# Altium footprint library base.PcbLib: 15 footprints
Each footprint in its own frame and in the unit in brackets; x right, y up, seen from the top. Pads: shape width x height; smd on the part's side, far side on the other; paste and mask are expansions set on the pad; w line width, h text height; cw(c..) or ccw(c..) is an arc to the next point about the centre after c.
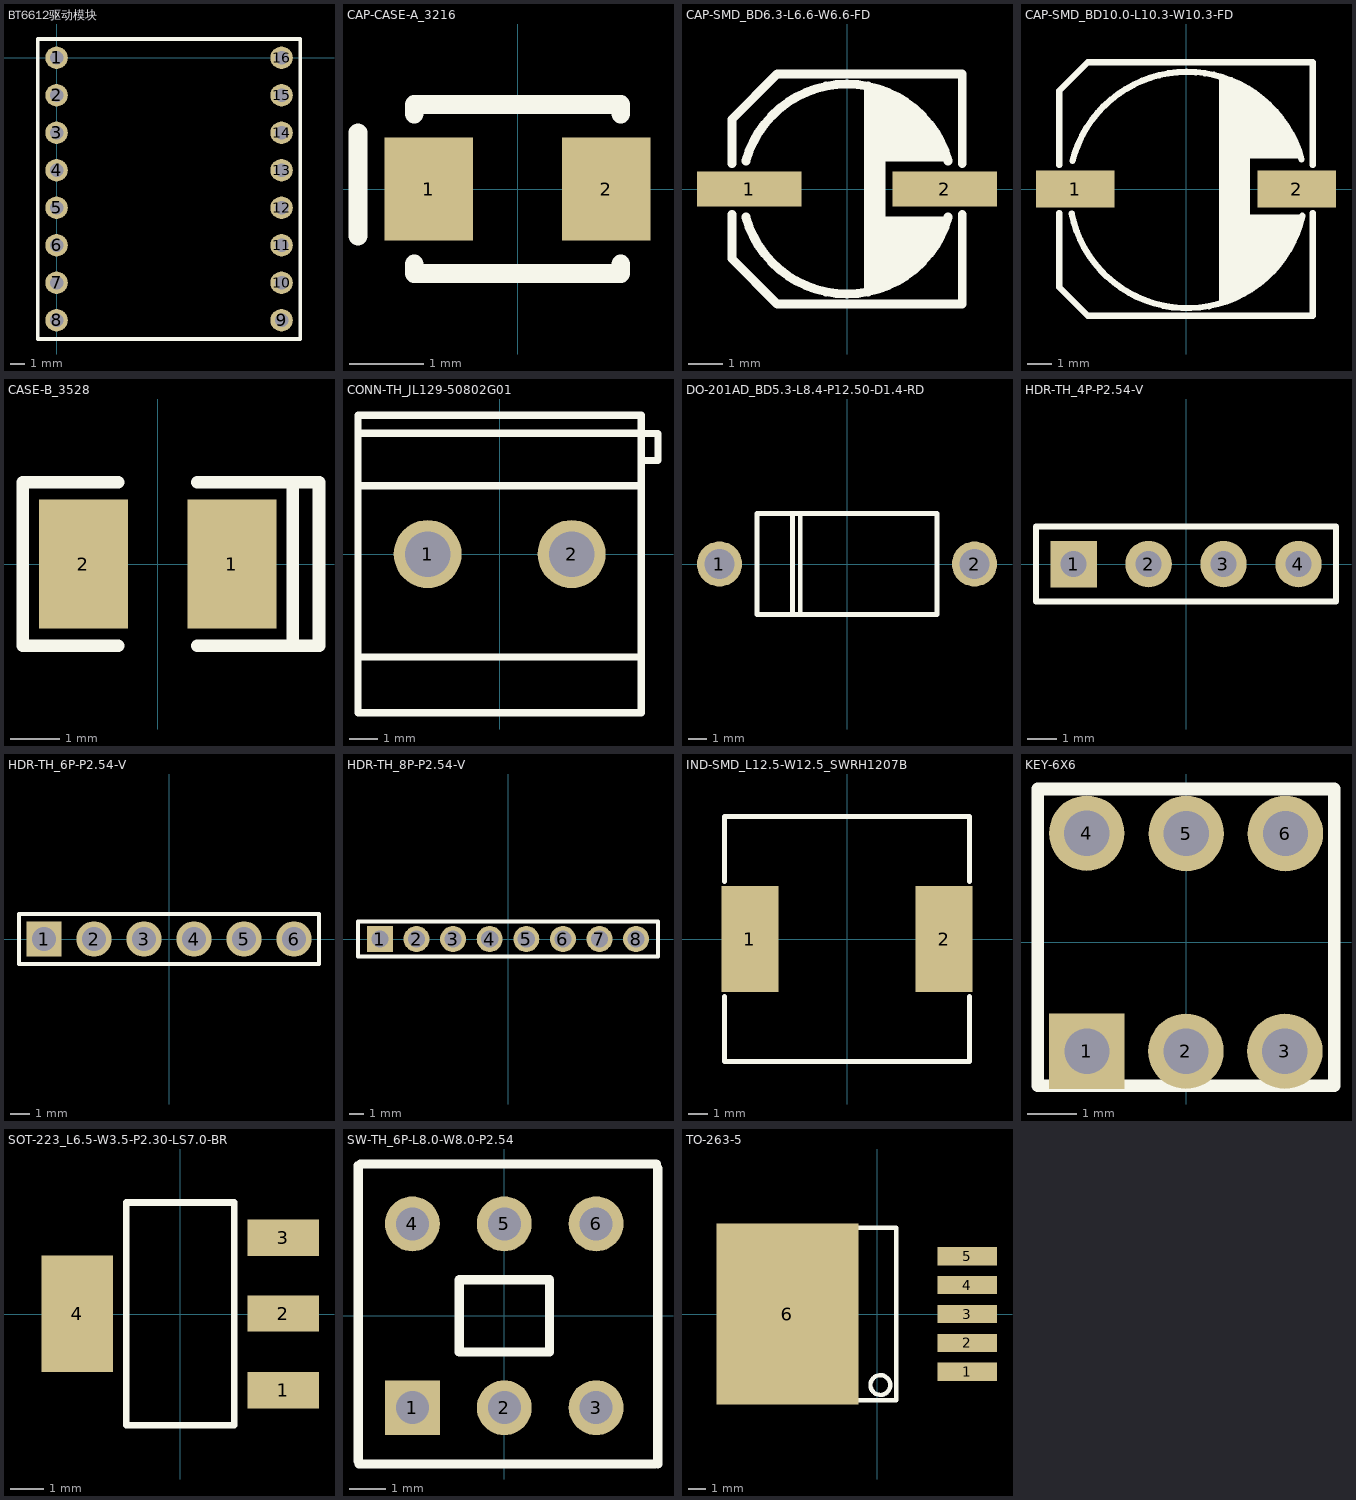
[diagram p0: the footprints below, top view; thin cyan lines are the x and y axes]

## BT6612驱动模块 [mil]
pads (16):
  round 60 hole 36: 1(0.08,-0.06) 2(0.08,-100.06) 3(0,-200) 4(0,-300) 5(0,-400) 6(0,-500) 7(0,-600) 8(0,-700) 9(600,-700) 10(600,-600) 11(600,-500) 12(600,-400) 13(600,-300) 14(600,-200) 15(600,-100) 16(600,0)
Top Overlay:
  lines w10: -50,-750 -50,50 650,50 650,-750 -50,-750

## CAP-CASE-A_3216 [mm]
pads (2):
  rect 1.2x1.4 smd: 1(-1.2,0) 2(1.2,0)
Top Overlay:
  lines w0.254: -2.159,-0.635 -2.159,0.762 ; -1.397,-1.016 -1.397,-1.143 1.397,-1.143 1.397,-1.016 ; -1.397,1.016 -1.397,1.143 1.397,1.143 1.397,1.016

## CAP-SMD_BD6.3-L6.6-W6.6-FD [mm]
pads (2):
  rect 3x1 smd: 1(-2.8,0) 2(2.8,0)
Top Overlay:
  region: 0.5,-3 0.5,2.9 0.5,3 0.5,2.9 1.1,2.8 1.6,2.6 1.9,2.3 2.2,2.1 2.5,1.8 2.7,1.4 2.9,0.8 1.1,0.8 1.1,-0.8 2.9,-0.8 2.8,-1 2.7,-1.4 2.4,-1.7 2.2,-2.1 1.8,-2.4 1.4,-2.6 1,-2.8 0.5,-3
  lines w0.254: -3.297,-0.732 -3.297,-1.999 -1.996,-3.299 3.302,-3.299 3.302,-0.732 ; -3.297,0.732 -3.297,1.999 -1.996,3.299 3.302,3.299 3.302,0.732 ; -2.9,-0.8 ccw(c0,0) 2.9,-0.8 ; -2.9,0.8 cw(c0,0) 2.9,0.8

## CAP-SMD_BD10.0-L10.3-W10.3-FD [mm]
pads (2):
  rect 3.2x1.5 smd: 1(-4.5,0) 2(4.5,0)
Top Overlay:
  region: 1.35,4.6 1.35,-4.65 1.8,-4.45 2.4,-4.2 2.9,-3.9 3.25,-3.55 3.55,-3.35 3.85,-2.95 4.2,-2.35 4.45,-1.95 4.6,-1.6 4.75,-1.05 2.6,-1.05 2.6,1.1 2.6,1.25 4.65,1.25 4.5,1.8 4.2,2.45 3.95,2.9 3.4,3.45 2.8,3.85 2.2,4.2 1.8,4.5 1.35,4.65
  lines w0.254: -5.15,-0.981 -5.15,-4 -4,-5.15 5.15,-5.15 5.15,-0.981 ; -5.15,0.981 -5.15,4 -4,5.15 5.15,5.15 5.15,0.981 ; -4.65,-1 ccw(c0.05,-0.05) 4.731,-1.09 ; -4.614,1.146 cw(c0.05,-0.05) 4.7,1.2

## CASE-B_3528 [mm]
pads (2):
  rect 1.8x2.6 smd: 1(1.501,0) 2(-1.501,0)
Top Overlay:
  lines w0.254: -0.8,-1.65 -2.727,-1.65 -2.727,1.65 -0.8,1.65 ; 0.8,-1.65 2.727,-1.65 ; 0.8,1.65 2.727,1.65 ; 2.727,-1.65 2.727,1.65 ; 2.727,-1.65 3.26,-1.65 3.26,1.65 2.727,1.65

## CONN-TH_JL129-50802G01 [mm]
pads (2):
  round 2.4 hole 1.6: 1(-2.54,0) 2(2.54,0)
Top Overlay:
  lines w0.254: -5,-3.638 5,-3.638 ; -5,2.409 5,2.409 ; -5,4.263 5,4.263 ; 5,3.302 5.588,3.302 5.588,4.261 5,4.261 ; -5,-5.6 -5,4.9 5,4.9 5,-5.6 -5,-5.6

## DO-201AD_BD5.3-L8.4-P12.50-D1.4-RD [mm]
pads (2):
  round 2.4 hole 1.6: 1(-6.8,0) 2(6.8,0)
Top Overlay:
  lines w0.254: -2.902,-2.7 -2.902,2.7 ; -2.496,-2.54 -2.496,2.7 ; -4.8,-2.7 -4.8,2.7 4.8,2.7 4.8,-2.7 -4.8,-2.7

## HDR-TH_4P-P2.54-V [mil]
pads (4):
  rect 62x62 hole 35: 1(-150,0)
  round 62 hole 35: 2(-50,0) 3(50,0) 4(150,0)
Top Overlay:
  lines w7.99: -125,50 200,50
  lines w8: -125,50 -200,50 -200,-50 200,-50 200,50

## HDR-TH_6P-P2.54-V [mm]
pads (6):
  rect 1.8x1.8 hole 1.2: 1(-6.35,0)
  round 1.8 hole 1.2: 2(-3.81,0) 3(-1.27,0) 4(1.27,0) 5(3.81,0) 6(6.35,0)
Top Overlay:
  lines w0.203: -7.62,-1.27 7.62,-1.27 7.62,1.27 -5.715,1.27 -7.62,1.27 -7.62,-1.27

## HDR-TH_8P-P2.54-V [mm]
pads (8):
  rect 1.8x1.8 hole 1.2: 1(-8.89,0)
  round 1.8 hole 1.2: 2(-6.35,0) 3(-3.81,0) 4(-1.27,0) 5(1.27,0) 6(3.81,0) 7(6.35,0) 8(8.89,0)
Top Overlay:
  lines w0.254: -10.41,-1.22 -10.41,1.22 10.41,1.22 10.41,-1.22 -10.41,-1.22

## IND-SMD_L12.5-W12.5_SWRH1207B [mm]
pads (2):
  rect 2.9x5.4 smd: 1(-4.95,0) 2(4.95,0)
Top Overlay:
  lines w0.254: -6.25,-2.931 -6.25,-6.25 6.25,-6.25 6.25,-2.931 ; -6.25,2.931 -6.25,6.25 6.25,6.25 6.25,2.931

## KEY-6X6 [mil]
pads (6):
  rect 60x60 hole 36: 1(-78.9,-86.75)
  round 60 hole 36: 2(-0.1,-86.75) 3(78.6,-86.75) 4(-79,86.75) 5(0.1,86.45) 6(79,86.45)
Top Overlay:
  lines w10: -118.17,-114.3 118.05,-114.3 118.05,121.92 -118.17,121.92 -118.17,-114.3

## SOT-223_L6.5-W3.5-P2.30-LS7.0-BR [mil]
pads (4):
  rect 85x43 smd: 1(122,-90.5) 2(122,0.5) 3(122,90.5)
  rect 85x138 smd: 4(-122,0.5)
Top Overlay:
  lines w7.9: -63.8,-131.7 64.1,-131.7 64.1,132.1 -63.8,132.1 -63.8,-131.7

## SW-TH_6P-L8.0-W8.0-P2.54 [mil]
pads (6):
  rect 60x60 hole 36: 1(-100.4,-100.4)
  round 60 hole 36: 2(0,-100.4) 3(100.4,-100.4) 4(-100.4,100.4) 5(0,100.4) 6(100.4,100.4)
Top Overlay:
  lines w10: -159.38,-158.72 -159.38,164.11 ; -158.49,-161.85 164.34,-161.85 ; -156.93,165.77 165.9,165.77 ; 167.53,-161.74 167.53,161.09 ; -49.21,-39.37 -49.21,39.37 49.22,39.37 49.22,-39.37 -49.21,-39.37

## TO-263-5 [mil]
pads (6):
  rect 137.79x42.1 smd: 1(209,-134) 2(209,-67) 3(209,0) 4(209,67) 5(209,134)
  rect 329.92x419.68 smd: 6(-209,0)
Top Overlay:
  circle w10: c7,-165 r23
  lines w10: -289,-200 44,-200 44,200 -289,200